# EAGLE library part TL074 (library _mtvl_ic)
OP AMP
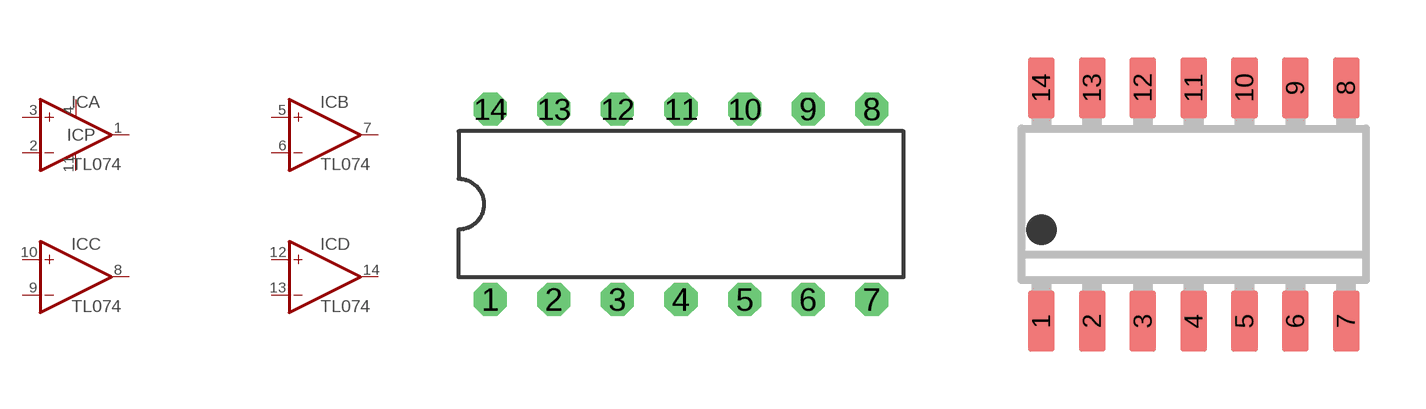
[diagram p10: symbol with the pads of DIL14; footprints DIL14, SO14_]

Designator prefix IC; gates A=OPAMP B=OPAMP C=OPAMP D=OPAMP P=PWR+--1

## TL074P  [DIL14]
1  A:OUT  out
2  A:-IN  in
3  A:+IN  in
4  P:V+  pwr
5  B:+IN  in
6  B:-IN  in
7  B:OUT  out
8  C:OUT  out
9  C:-IN  in
10  C:+IN  in
11  P:V-  pwr
12  D:+IN  in
13  D:-IN  in
14  D:OUT  out

## TL074D  [SO14_]
Pads as for DIL14

## Footprint DIL14 (pad centres in mm)
Dual In Line Package
drill 0.813 octagon: 1 -7.62,-3.81; 2 -5.08,-3.81; 3 -2.54,-3.81; 4 0,-3.81; 5 2.54,-3.81; 6 5.08,-3.81; 7 7.62,-3.81; 8 7.62,3.81; 9 5.08,3.81; 10 2.54,3.81; 11 0,3.81; 12 -2.54,3.81; 13 -5.08,3.81; 14 -7.62,3.81

## Footprint SO14_ (pad centres in mm)
Small Outline Package 14
smd 0.66 x 1.524: 1 -3.81,-2.921; 2 -2.54,-2.921; 3 -1.27,-2.921; 4 0,-2.921; 5 1.27,-2.921; 6 2.54,-2.921; 7 3.81,-2.921; 8 3.81,2.921; 9 2.54,2.921; 10 1.27,2.921; 11 0,2.921; 12 -1.27,2.921; 13 -2.54,2.921; 14 -3.81,2.921